# EAGLE library part I__LITTLE-US_74*1G3157 (library ..SMD)
Single-Pole, Double-Throw Analog Switch Source: http://focus.ti.com/lit/ds/symlink/sn74lvc1g3157.pdf
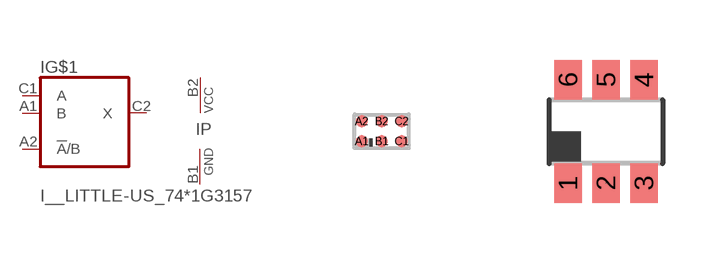
[diagram p344: symbol with the pads of YZP_R-XBGA-N6; footprints YZP_R-XBGA-N6, DBV_R-PDSO-G6]

Designator prefix I; gates G$1=743157-1 P=PWRN-3

## I__LITTLE-US_741G3157ZYPR  [YZP_R-XBGA-N6]
A1  G$1:B
A2  G$1:!A!/B  in
B1  P:GND  pwr
B2  P:VCC  pwr
C1  G$1:A
C2  G$1:X

## I__LITTLE-US_741G3157DBVR  [DBV_R-PDSO-G6]
1  G$1:B
2  P:GND  pwr
3  G$1:A
4  G$1:X
5  P:VCC  pwr
6  G$1:!A!/B  in

## I__LITTLE-US_741G3157DCKR  [DCK_R-PDSO-G6]
Pads as for DBV_R-PDSO-G6

## I__LITTLE-US_741G3157DRLR  [DRL_R-PDSO-N6]
Pads as for DBV_R-PDSO-G6

## I__LITTLE-US_741G3157YEPR  [YEP_R-XBGA-N6]
Pads as for YZP_R-XBGA-N6

## Footprint YZP_R-XBGA-N6 (pad centres in mm)
YZP (R-XBGA-N6) DIE-SIZE BALL GRID ARRAY NanoFree TM - WCSP (DSBGA) 0.23-mm Large Bump - YZP (Pb-free) Source: http://focus.ti.com/lit/ds/symlink/sn74lvc1g3157
smd 0.3 x 0.3: A1 -0.5,-0.25; A2 -0.5,0.25; B1 0,-0.25; B2 0,0.25; C1 0.5,-0.25; C2 0.5,0.25

## Footprint DBV_R-PDSO-G6 (pad centres in mm)
DBV (R-PDSO-G6) PLASTIC SMALL-OUTLINE PACKAGE SOT (SOT-23) - DBV Source: http://focus.ti.com/lit/ds/symlink/sn74lvc1g3157.
smd 0.69 x 0.99: 1 -0.95,-1.29; 2 0,-1.29; 3 0.95,-1.29; 4 0.95,1.3; 5 0,1.3; 6 -0.95,1.3

## Footprint DCK_R-PDSO-G6 (pad centres in mm)
DCK (R-PDSO-G6) PLASTIC SMALL-OUTLINE PACKAGE SOT (SC-70) - DCK Source: http://focus.ti.com/lit/ds/symlink/sn74lvc1g3157.
smd 0.4 x 0.7: 1 -0.65,-0.85; 2 0,-0.85; 3 0.65,-0.85; 4 0.65,0.85; 5 0,0.85; 6 -0.65,0.85

## Footprint DRL_R-PDSO-N6 (pad centres in mm)
DRL (R-PDSO-N6) PLASTIC SMALL OUTLINE SOT (SOT-553) - DRL Source: http://focus.ti.com/lit/ds/symlink/sn74lvc1g3157.pdf
smd 0.35 x 0.55: 1 -0.5,-0.675; 2 0,-0.675; 3 0.5,-0.675; 4 0.5,0.675; 5 0,0.675; 6 -0.5,0.675

## Footprint YEP_R-XBGA-N6 (pad centres in mm)
YEP (R-XBGA-N6) DIE-SIZE BALL GRID ARRAY NanoStar TM - WCSP (DSBG A)0.23-mm Large Bump - YEP Source: http://focus.ti.com/lit/ds/symlink/sn74lvc1g3157
smd 0.3 x 0.3: A1 -0.5,-0.25; A2 -0.5,0.25; B1 0,-0.25; B2 0,0.25; C1 0.5,-0.25; C2 0.5,0.25